# EAGLE library part AT91SAM7S64_OLIMEX (library Atmel_Prototype_Header)
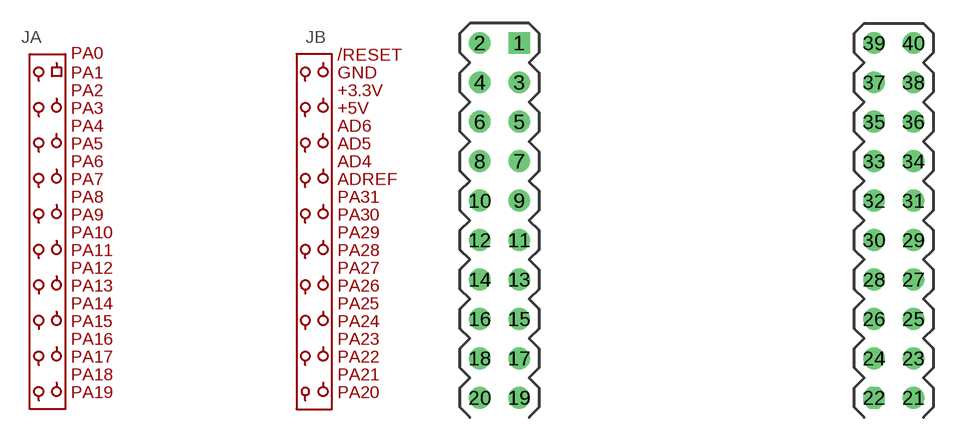
[diagram p16: symbol with the pads of HEADDER_DUAL_OLIMEX40_35; footprint HEADDER_DUAL_OLIMEX40_35]

Designator prefix J; gates A=AT91SAM7S64_OLIMEX_H1 B=AT91SAM7S64_OLIMEX_H2

## AT91SAM7S64_OLIMEX_H  [HEADDER_DUAL_OLIMEX40_35]
1  A:PA0  pas
2  A:PA1  pas
3  A:PA2  pas
4  A:PA3  pas
5  A:PA4  pas
6  A:PA5  pas
7  A:PA6  pas
8  A:PA7  pas
9  A:PA8  pas
10  A:PA9  pas
11  A:PA10  pas
12  A:PA11  pas
13  A:PA12  pas
14  A:PA13  pas
15  A:PA14  pas
16  A:PA15  pas
17  A:PA16  pas
18  A:PA17  pas
19  A:PA18  pas
20  A:PA19  pas
21  B:PA20  pas
22  B:PA21  pas
23  B:PA22  pas
24  B:PA23  pas
25  B:PA24  pas
26  B:PA25  pas
27  B:PA26  pas
28  B:PA27  pas
29  B:PA28  pas
30  B:PA29  pas
31  B:PA30  pas
32  B:PA31  pas
33  B:ADREF  pas
34  B:AD4  pas
35  B:AD5  pas
36  B:AD6  pas
37  B:+5V  pas
38  B:+3.3V  pas
39  B:GND  in
40  B:/RESET  pas

## Footprint HEADDER_DUAL_OLIMEX40_35 (pad centres in mm)
drill 0.9 square: 1 -11.43,11.43
drill 0.9 round: 2 -13.97,11.43; 3 -11.43,8.89; 4 -13.97,8.89; 5 -11.43,6.35; 6 -13.97,6.35; 7 -11.43,3.81; 8 -13.97,3.81; 9 -11.43,1.27; 10 -13.97,1.27; 11 -11.43,-1.27; 12 -13.97,-1.27; 13 -11.43,-3.81; 14 -13.97,-3.81; 15 -11.43,-6.35; 16 -13.97,-6.35; 17 -11.43,-8.89; 18 -13.97,-8.89; 19 -11.43,-11.43; 20 -13.97,-11.43; 21 13.97,-11.43; 23 13.97,-8.89; 24 11.43,-8.89; 25 13.97,-6.35; 26 11.43,-6.35; 27 13.97,-3.81; 28 11.43,-3.81; 29 13.97,-1.27; 30 11.43,-1.27; 31 13.97,1.27; 32 11.43,1.27; 33 11.43,3.81; 34 13.97,3.81; 35 11.43,6.35; 36 13.97,6.35; 37 11.43,8.89; 38 13.97,8.89; 39 11.43,11.43; 40 13.97,11.43
drill 0.9 octagon: 22 11.43,-11.43